# Altium integrated library L78L05ACU.IntLib: 1 symbol
Pins are listed as number, name and electrical type; pins without a type are passive.

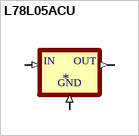
[diagram p0: symbol L78L05ACU]

## L78L05ACU
designator ?
Linear Voltage Regulator IC 1 Output 100mA SOT-89-3; MF: STMicroelectronics; MP: L78L05ACU; Availability: Unavailable; Price: None; Package: SOT-89-3 STMicroelectronics; Value: *; SnapEDA_Link: https://www.snapeda.com/parts/L78L05ACU/STMicroelectronics/view-part/1236826/?ref=snap
footprint SOT89
pins: 1 OUT (out), 2 GND (in), 3 IN (in)